# EAGLE library part MC14555BCPG (library ON Semiconductor_By_element14_Batch_1)
Dual Binary to 1-of-4 Decoder/Demultiplexer
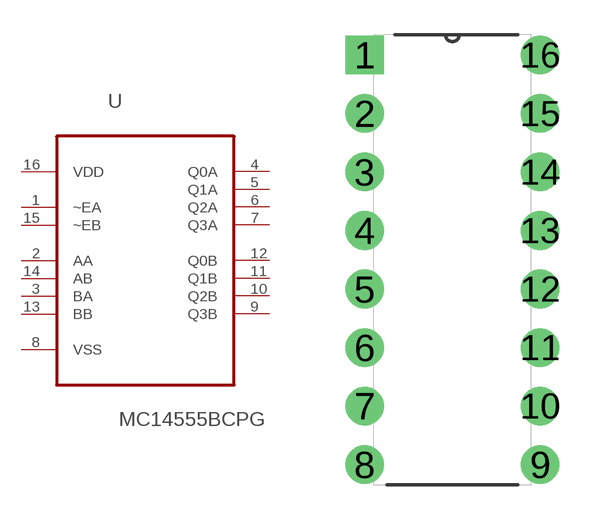
[diagram p301: symbol with the pads of DIP254P762X444-16; footprint DIP254P762X444-16]

Designator prefix U

## MC14555BCPG (MPN: MC14555BCPG; OC_FARNELL: 9665277; OC_NEWARK: 45J1132; P1I: o; PACKAGE: PDIP-16; SUPPLIER: ON SEMICONDUCTOR)  [DIP254P762X444-16]
1  ~EA  in
2  AA  in
3  BA  in
4  Q0A  out
5  Q1A  out
6  Q2A  out
7  Q3A  out
8  VSS  pas
9  Q3B  out
10  Q2B  out
11  Q1B  out
12  Q0B  out
13  BB  in
14  AB  in
15  ~EB  in
16  VDD  pwr

## Footprint DIP254P762X444-16 (pad centres in mm)
drill 1.118 square: 1 -7.62,17.78
drill 1.118: 2 -7.62,15.24; 3 -7.62,12.7; 4 -7.62,10.16; 5 -7.62,7.62; 6 -7.62,5.08; 7 -7.62,2.54; 8 -7.62,0; 9 0,0; 10 0,2.54; 11 0,5.08; 12 0,7.62; 13 0,10.16; 14 0,12.7; 15 0,15.24; 16 0,17.78